# Altium footprint library QFN-STM_Adapter.PcbLib: 1 footprints
Each footprint in its own frame and in the unit in brackets; x right, y up, seen from the top. Pads: shape width x height; smd on the part's side, far side on the other; paste and mask are expansions set on the pad; w line width, h text height; cw(c..) or ccw(c..) is an arc to the next point about the centre after c.
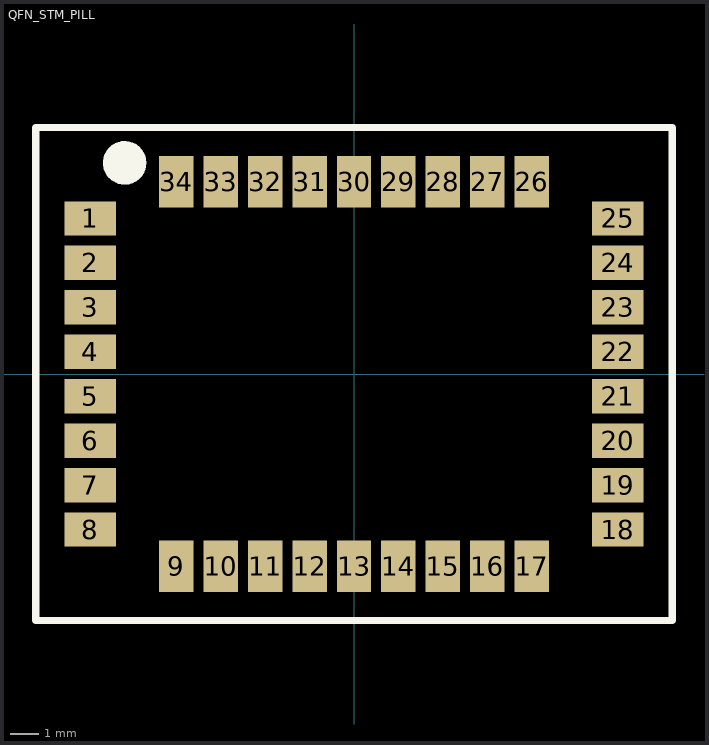
[diagram p0: the footprint, top view; thin cyan lines are the x and y axes]

## QFN_STM_PILL [mm]
pads (34):
  rect 1.8x1.2 smd: 1(-9.2,5.425) 2(-9.2,3.875) 3(-9.2,2.325) 4(-9.2,0.775) 5(-9.2,-0.775) 6(-9.2,-2.325) 7(-9.2,-3.875) 8(-9.2,-5.425) 18(9.2,-5.425) 19(9.2,-3.875) 20(9.2,-2.325) 21(9.2,-0.775) 22(9.2,0.775) 23(9.2,2.325) 24(9.2,3.875) 25(9.2,5.425)
  rect 1.2x1.8 smd: 9(-6.2,-6.7) 10(-4.65,-6.7) 11(-3.1,-6.705) 12(-1.55,-6.7) 13(0,-6.7) 14(1.55,-6.7) 15(3.1,-6.7) 16(4.65,-6.7) 17(6.2,-6.7) 26(6.2,6.7) 27(4.65,6.7) 28(3.1,6.705) 29(1.55,6.7) 30(0,6.7) 31(-1.55,6.7) 32(-3.1,6.7) 33(-4.65,6.7) 34(-6.2,6.7)
Top Overlay:
  circle w0.254: c-8.001,7.366 r0.127
  circle w0.254: c-8.001,7.366 r0.284
  circle w0.254: c-8.001,7.366 r0.458
  circle w0.254: c-8.001,7.366 r0.635
  lines w0.254: -11.1,-8.6 -11.1,6 -11.1,8.6 6.85,8.6 11.1,8.6 11.1,-6 11.1,-8.6 -6.8,-8.6 -11.1,-8.6
3D body "QFN_F103CBU.x_t": height 2.68, standoff -0.01, extent -9.034,-6.5 9.034,6.57